# Altium footprint library Electromechanical.PcbLib: 1 footprints
Each footprint in its own frame and in the unit in brackets; x right, y up, seen from the top. Pads: shape width x height; smd on the part's side, far side on the other; paste and mask are expansions set on the pad; w line width, h text height; cw(c..) or ccw(c..) is an arc to the next point about the centre after c.
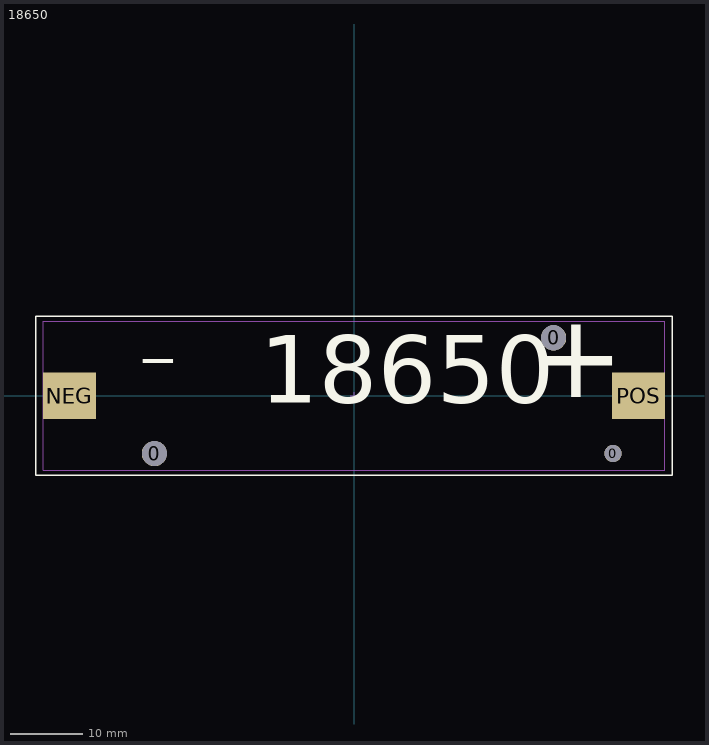
[diagram p0: the footprint, top view; thin cyan lines are the x and y axes]

## 18650 [mm] "18650 single cell batery holder."
pads (5):
  round 3.5 hole 3.5 unplated: 0(-27.6,-8) 0(27.6,8)
  round 2.4 hole 2.4 unplated: 0(35.825,-8)
  rect 7.3x6.4 smd: NEG(-39.35,0) POS(39.35,0)
Top Overlay:
  lines w0.2: -44,-11 44,-11 44,11 -44,11 -44,-11
  text "+" at 24,-4 h20
  text "-" at -30,-3 h20
  text "18650" at -13,-4 h16
Top Assembly:
  lines w0.1: -43,-10.325 43,-10.325 43,10.325 -43,10.325 -43,-10.325
Top Component Center:
  lines w0.1: -0.5,0 0.5,0 ; 0,-0.5 0,0.5
Top Component Outline:
  lines w0.1: -43,-10.325 -43,10.325 43,10.325 43,-10.325 -43,-10.325
Top Courtyard:
  lines w0.1: -43,-10.325 43,-10.325 43,10.325 -43,10.325 -43,-10.325
Top Designator:
  text "''.Designator''" at 0,0 h2
Top Value:
  text "''.Comment''" at 0,0 h2
3D body "18650 Battery 01A v1.step": height 18.1, standoff 0.1, extent -32.625,-9 32.625,9
3D body "keystone-PN1042.STEP": height 14.86, standoff -3.43, extent -43.004,-10.325 43,10.325